# EAGLE library part 750344367 (library WE-OLTI)
WE-OLTI Offline Flyback Transformers Characteristics Nominal input voltage: 85–265 VAC (120–375 VDC) Small size Low leakage inductance Multiple-output options Operating temperature: −40 °C to +125 °C Isolation Voltage: 2 kVAC to 5 kVAC Options for fixed frequency or quasi-resonant mode operation Most products meet reinforced insulation Applications Industrial controls USB chargers Utility metering devices Process controls Factory automation Security systems Garage door opener auxiliary supplies Home appliances Especially designed for several ICs from Texas Instruments <https://www.we-online.com/components/media/o814034v209%20UtOLTI%20Group%20CGI.jpg> Details see: www.we-online.com/en/components/products/WE-OLTI <www.we-online.com/catalog/WE-OLTI/?utm_source=eagle_model&utm_medium=description_link&utm_campaign=eisos_eagle> Created by Ella Wu 2025-02-06 2025 (C) Wurth Elektronik
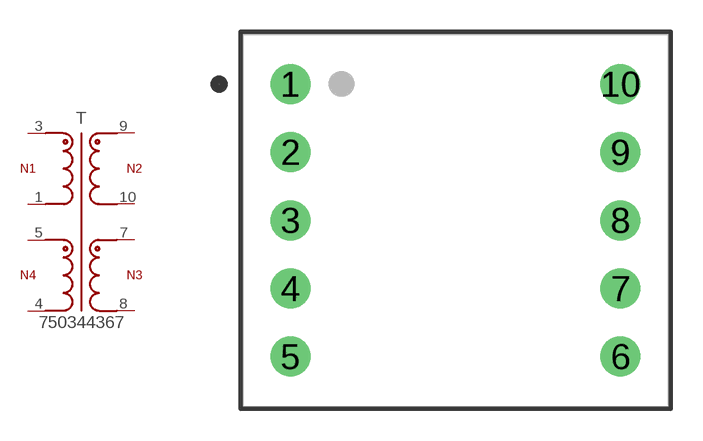
[diagram p22: symbol with the pads of WE-OLTI_EE16/7/5_L20W17.5H14; footprint WE-OLTI_EE16/7/5_L20W17.5H14]

Designator prefix T

## 750344367 (DATASHEET-URL: https://www.we-online.com/redexpert/spec/750344367?ae; FSWITCH: 110kHz; HEIGHT: 14mm; IOUT1: 100mA; IOUT2: 900mA; ISAT: 0.3A; L: 1600uH; LENGTH: 17.5mm; MOUNT: THT; N: 16:2:1:2; PART-NUMBER: 750344367; SIZE: EE16/7/5; VALUE: 1600uH; VAUX: 12V; VIN: 269 - 282 V (AC); VOUT1: 18V; VOUT2: 6V; VT: 3000V(AC); WIDTH: 20mm)  [WE-OLTI_EE16/7/5_L20W17.5H14]
1  1  pas
3  3  pas
4  4  pas
5  5  pas
7  7  pas
8  8  pas
9  9  pas
10  10  pas

## Footprint WE-OLTI_EE16/7/5_L20W17.5H14 (pad centres in mm)
WE-OLTI Offline Flyback Transformers Size: EE16/7/5,THT,10pins LXWXH=20X17.5X14mm Bobbin: 070-7101
drill 1.25: 1 -7.75,6.4; 2 -7.75,3.2; 3 -7.75,0; 4 -7.75,-3.2; 5 -7.75,-6.4; 6 7.75,-6.4; 7 7.75,-3.2; 8 7.75,0; 9 7.75,3.2; 10 7.75,6.4